# Altium footprint library MCP6001T-SOT23-5.PcbLib: 4 footprints
Each footprint in its own frame and in the unit in brackets; x right, y up, seen from the top. Pads: shape width x height; smd on the part's side, far side on the other; paste and mask are expansions set on the pad; w line width, h text height; cw(c..) or ccw(c..) is an arc to the next point about the centre after c.
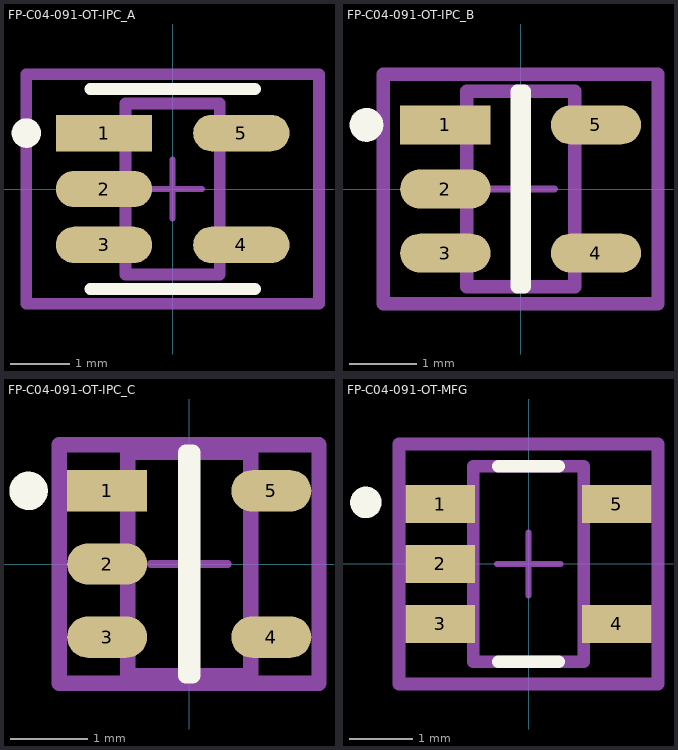
[diagram p0: the footprints below, top view; thin cyan lines are the x and y axes]

## FP-C04-091-OT-IPC_A [mil]
pads (5):
  rect 64.5x24.33 smd paste+0 mask+0: 1(-45.91,37.4)
  rrect100% 64.5x24.33 smd paste+0 mask+0: 2(-45.91,0) 3(-45.91,-37.4) 4(45.91,-37.4) 5(45.91,37.4)
Top Overlay:
  circle w9.84: c-97.85,37.4 r4.92
  lines w7.87: -55.12,-66.93 55.12,-66.93 ; -55.12,66.93 55.12,66.93
Top Assembly:
  lines w7.87: -97.85,-76.77 97.85,-76.77 97.85,76.77 -97.85,76.77 -97.85,-76.77
  text ".Designator" at 0,7.39 h39.37
Top 3D Body:
  lines w7.87: -31.5,-57.09 31.5,-57.09 31.5,57.09 -31.5,57.09 -31.5,-57.09
Top Courtyard:
  lines w7.87: -97.85,-76.77 97.85,-76.77 97.85,76.77 -97.85,76.77 -97.85,-76.77
Top Component Center:
  lines w3.94: -19.68,0 19.68,0 ; 0,-19.68 0,19.68

## FP-C04-091-OT-IPC_B [mm]
pads (5):
  rect 1.338x0.578 smd paste+0 mask+0: 1(-1.116,0.95)
  rrect100% 1.338x0.578 smd paste+0 mask+0: 2(-1.116,0) 3(-1.116,-0.95) 4(1.116,-0.95) 5(1.116,0.95)
Top Overlay:
  circle w0.25: c-2.285,0.95 r0.125
  lines w0.2: -0.053,-1.45 -0.053,1.45 0.053,1.45 0.053,-1.45 -0.053,-1.45
Top Assembly:
  lines w0.2: -2.035,-1.7 2.035,-1.7 2.035,1.7 -2.035,1.7 -2.035,-1.7
  text ".Designator" at 0,0.188 h1
Top 3D Body:
  lines w0.2: -0.8,-1.45 0.8,-1.45 0.8,1.45 -0.8,1.45 -0.8,-1.45
Top Courtyard:
  lines w0.2: -2.035,-1.7 2.035,-1.7 2.035,1.7 -2.035,1.7 -2.035,-1.7
Top Component Center:
  lines w0.1: -0.5,0 0.5,0 ; 0,-0.5 0,0.5

## FP-C04-091-OT-IPC_C [mm]
pads (5):
  rect 1.038x0.538 smd paste+0 mask+0: 1(-1.066,0.95)
  rrect100% 1.038x0.538 smd paste+0 mask+0: 2(-1.066,0) 3(-1.066,-0.95) 4(1.066,-0.95) 5(1.066,0.95)
Top Overlay:
  circle w0.25: c-2.085,0.95 r0.125
  lines w0.2: -0.047,-1.45 0.047,-1.45 0.047,1.45 -0.047,1.45 -0.047,-1.45
Top Assembly:
  lines w0.2: -1.685,-1.55 1.685,-1.55 1.685,1.55 -1.685,1.55 -1.685,-1.55
  text ".Designator" at 0,0.188 h1
Top 3D Body:
  lines w0.2: -0.8,-1.45 0.8,-1.45 0.8,1.45 -0.8,1.45 -0.8,-1.45
Top Courtyard:
  lines w0.2: -1.685,-1.55 1.685,-1.55 1.685,1.55 -1.685,1.55 -1.685,-1.55
Top Component Center:
  lines w0.1: -0.5,0 0.5,0 ; 0,-0.5 0,0.5

## FP-C04-091-OT-MFG [mm]
pads (5):
  rect 1.1x0.6 smd paste+0 mask+0: 1(-1.4,0.95) 2(-1.4,0) 3(-1.4,-0.95) 4(1.4,-0.95) 5(1.4,0.95)
Top Overlay:
  circle w0.25: c-2.575,0.975 r0.125
  lines w0.2: -0.475,-1.55 0.475,-1.55 ; -0.475,1.55 0.475,1.55
Top Assembly:
  lines w0.2: -2.05,-1.9 2.05,-1.9 2.05,1.9 -2.05,1.9 -2.05,-1.9
  text ".Designator" at 0,-0.001 h1
Top 3D Body:
  lines w0.2: -0.875,-1.55 0.875,-1.55 0.875,1.55 -0.875,1.55 -0.875,-1.55
Top Courtyard:
  lines w0.2: -2.05,-1.9 2.05,-1.9 2.05,1.9 -2.05,1.9 -2.05,-1.9
Top Component Center:
  lines w0.1: -0.5,0 0.5,0 ; 0,-0.5 0,0.5
3D body "IC_Microchip_MCP1802T-3302I-OT_eec.STEP": height 0.25, standoff 0, extent -2.05,-1.9 2.05,1.9